# EAGLE library part MICS-5524 (library Parts)
エアクオリティセンサ 動作温度: - 30 C to + 85 C 定格電流: 32 mA 供給電圧 - 4.9 V to 5.1 V
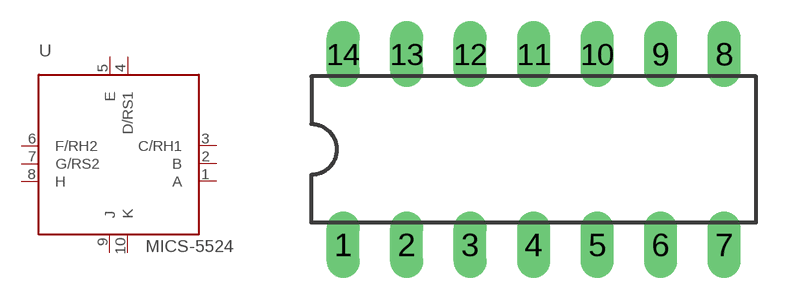
[diagram p24: symbol with the pads of DIL14; footprint DIL14]

Designator prefix U

## MICS-5524__  [DIL14]
1  A  nc
2  B  nc
3  C/RH1  pas
4  D/RS1  pas
5  E  nc
6  F/RH2  pas
7  G/RS2  pas
8  H  nc
9  J  nc
10  K  nc

## Footprint DIL14 (pad centres in mm)
Dual In Line Package
drill 0.813 long: 1 -7.62,-3.81; 2 -5.08,-3.81; 3 -2.54,-3.81; 4 0,-3.81; 5 2.54,-3.81; 6 5.08,-3.81; 7 7.62,-3.81; 8 7.62,3.81; 9 5.08,3.81; 10 2.54,3.81; 11 0,3.81; 12 -2.54,3.81; 13 -5.08,3.81; 14 -7.62,3.81